# Altium schematic symbol library sym-0028.SchLib: 1 symbol
Pins are listed as number, name and electrical type; pins without a type are passive.

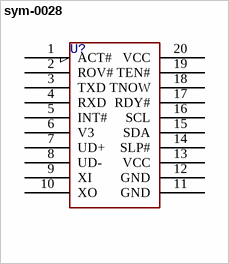
[diagram p0: symbol sym-0028]

## sym-0028
designator U?
CH347C, CH347T
pins: 1 ACT#, 2 ROV#, 3 TXD, 4 RXD, 5 INT#, 6 V3, 7 UD+, 8 UD-, 9 XI, 10 XO, 11 GND, 12 GND, 13 VCC, 14 SLP#, 15 SDA, 16 SCL, 17 RDY#, 18 TNOW, 19 TEN#, 20 VCC